# Altium schematic symbol library THMTestPoint.SchLib: 1 symbol
Pins are listed as number, name and electrical type; pins without a type are passive.

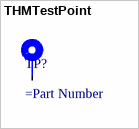
[diagram p0: symbol THMTestPoint]

## THMTestPoint
designator TP?
=Description
pins: 1